# EAGLE library part PD2328J5050S2HF (library oresat-samacsys_Parts)
Ultra Low Profile 0805 Power Divider Source: Datasheet <https://www.anaren.com/sites/default/files/PD2328J5050S2HF_DataSheet_RevA.pdf>
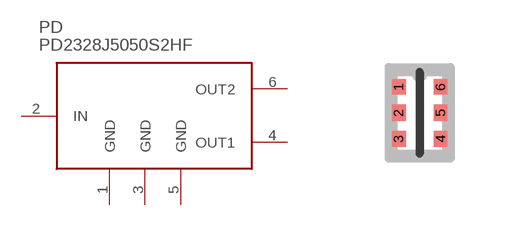
[diagram p1: symbol with the pads of PSON65P204X129X58-6N; footprint PSON65P204X129X58-6N]

Designator prefix PD

## PD2328J5050S2HF (DESCRIPTION: Ultra Low Profile 0805 Power Divider; HEIGHT: mm; MFR: ANAREN; MPN: PD2328J5050S2HF; VALUE: PD2328J5050S2HF)  [PSON65P204X129X58-6N]
1  GND  pwr
2  IN  in
3  GND  pwr
4  OUT1  out
5  GND  pwr
6  OUT2  out

## Footprint PSON65P204X129X58-6N (pad centres in mm)
EIA 481-2 (0805)
smd 0.35 x 0.4: 1 -0.525,0.65; 2 -0.525,0; 3 -0.525,-0.65; 4 0.525,-0.65; 5 0.525,0; 6 0.525,0.65